# Altium integrated library SMA_CONNECTOR.IntLib: 1 symbol
Pins are listed as number, name and electrical type; pins without a type are passive.

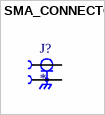
[diagram p0: symbol SMA_CONNECTOR]

## SMA_CONNECTOR
designator J?
Straight SMA Connector; MP: SMA_CONNECTOR; Package: None; Value: *; Price: None; Availability: Unavailable
footprint LPRS_SMA_CONNECTOR
pins: 1, G1 2, G2 2, G3 2, G4 2